# EAGLE library part MC14007UBDG (library ON_Semiconductor_By_element14_Batch_1)
Dual Complementary Pair Plus Inverter
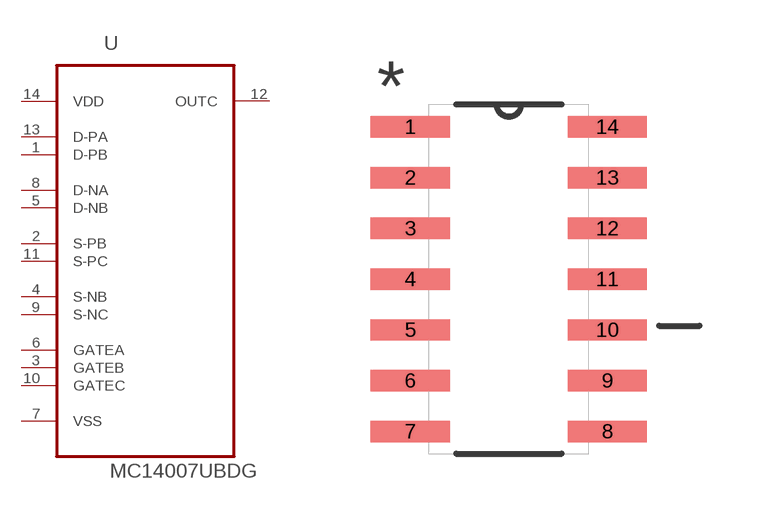
[diagram p194: symbol with the pads of SOIC127P600X175-14N; footprint SOIC127P600X175-14N]

Designator prefix U

## MC14007UBDG (MPN: MC14007UBDG; OC_FARNELL: 9665110; OC_NEWARK: 26K3925; PACKAGE: SOIC-14; SUPPLIER: ON SEMICONDUCTOR)  [SOIC127P600X175-14N]
1  D-PB  in
2  S-PB  in
3  GATEB  out
4  S-NB  out
5  D-NB  in
6  GATEA  in
7  VSS  pas
8  D-NA  in
9  S-NC  in
10  GATEC  out
11  S-PC  out
12  OUTC  in
13  D-PA  in
14  VDD  pwr

## Footprint SOIC127P600X175-14N (pad centres in mm)
smd 1.981 x 0.533: 1 -2.464,3.81; 2 -2.464,2.54; 3 -2.464,1.27; 4 -2.464,0; 5 -2.464,-1.27; 6 -2.464,-2.54; 7 -2.464,-3.81; 8 2.464,-3.81; 9 2.464,-2.54; 10 2.464,-1.27; 11 2.464,0; 12 2.464,1.27; 13 2.464,2.54; 14 2.464,3.81